# Altium footprint library 3.06-跳线座.PcbLib: 48 footprints (part 2 of 3)
Each footprint in its own frame and in the unit in brackets; x right, y up, seen from the top. Pads: shape width x height; smd on the part's side, far side on the other; paste and mask are expansions set on the pad; w line width, h text height; cw(c..) or ccw(c..) is an arc to the next point about the centre after c.
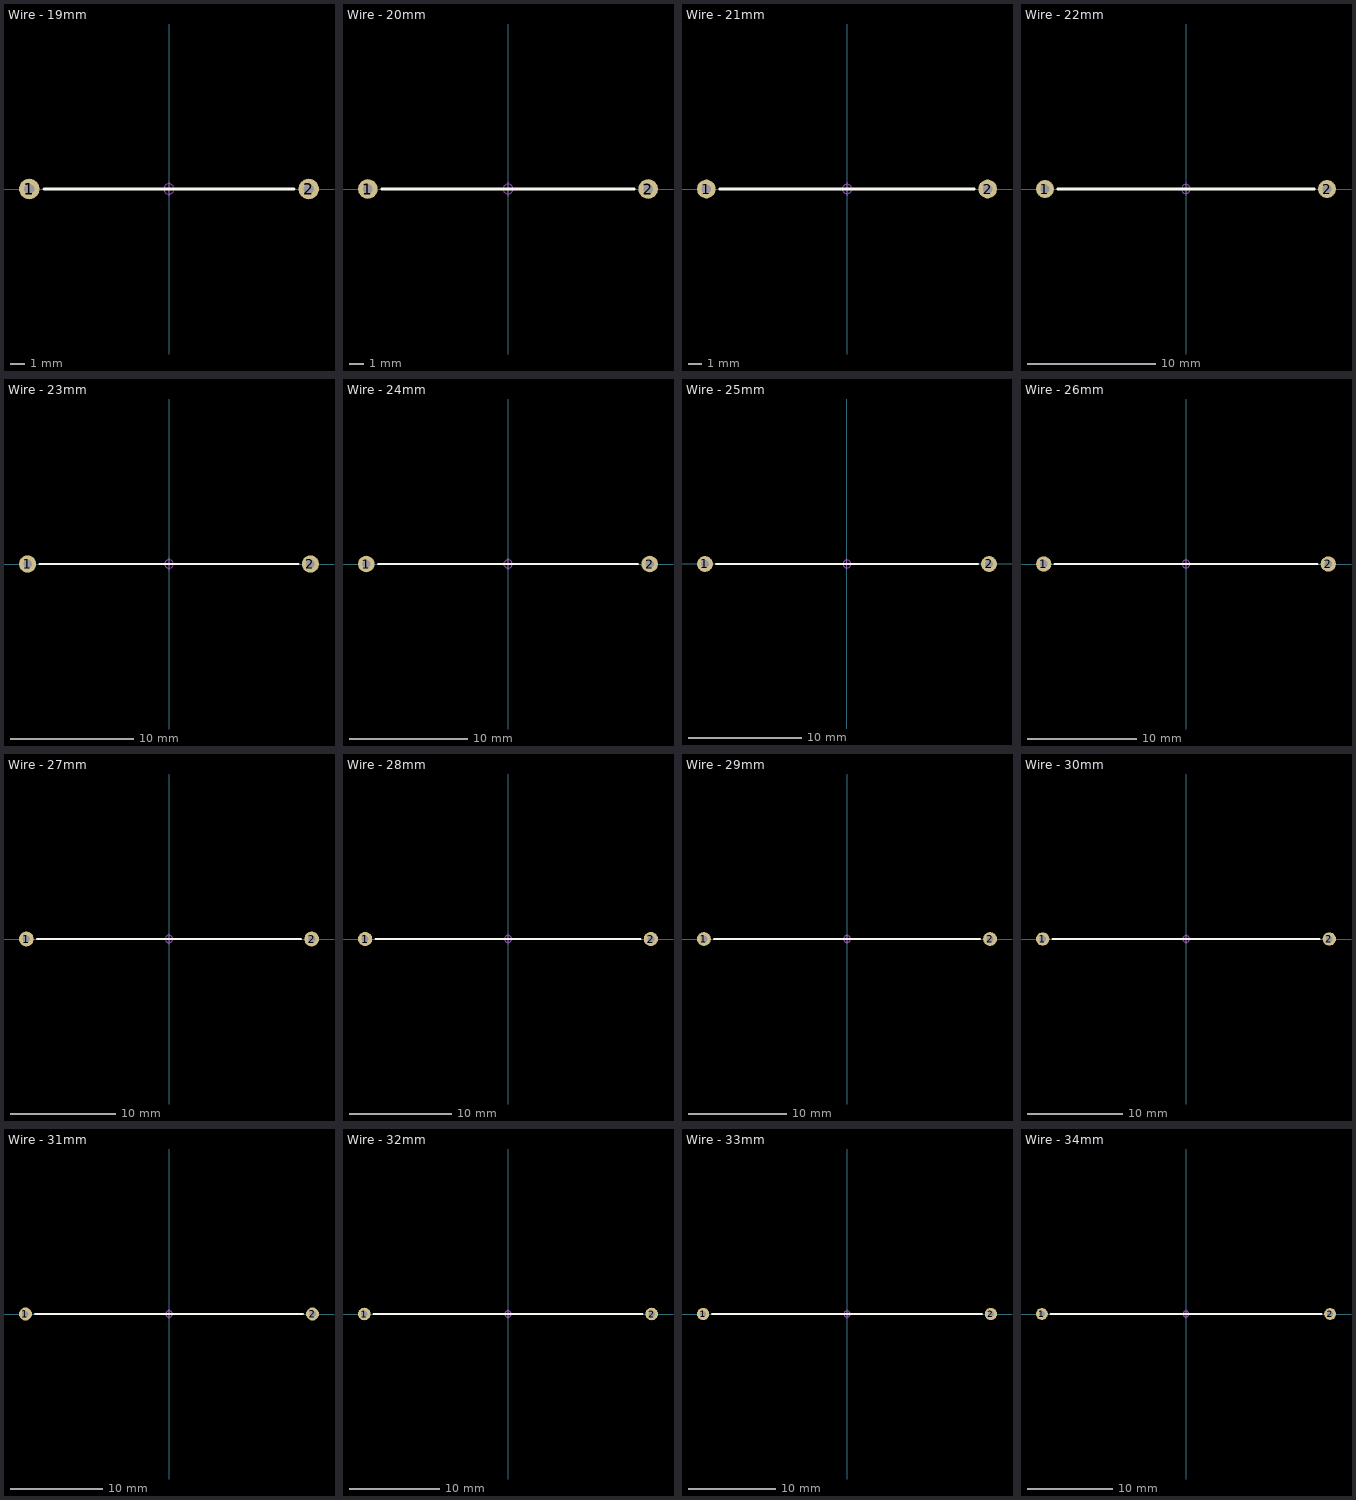
[diagram p1: the footprints below, top view; thin cyan lines are the x and y axes]

## Wire - 19mm [mm] "直接：0.5mm，脚距：19mm"
pads (2):
  round 1.4 hole 0.7: 1(-9.5,0) 2(9.5,0)
Top Overlay:
  lines w0.2: -8.5,0 8.5,0
Mechanical 15:
  circle w0.05: c0,0 r0.35
  lines w0.05: -0.5,0 0.5,0 ; 0,-0.5 0,0.5
3D body "Wire - 19mm.STEP": height 0.95, standoff -2.8, extent -9.75,-0.25 9.75,0.25

## Wire - 20mm [mm] "直接：0.5mm，脚距：20mm"
pads (2):
  round 1.4 hole 0.7: 1(-10,0) 2(10,0)
Top Overlay:
  lines w0.2: -9,0 9,0
Mechanical 15:
  circle w0.05: c0,0 r0.35
  lines w0.05: -0.5,0 0.5,0 ; 0,-0.5 0,0.5
3D body "Wire - 20mm.STEP": height 0.95, standoff -2.8, extent -10.25,-0.25 10.25,0.25

## Wire - 21mm [mm] "直接：0.5mm，脚距：21mm"
pads (2):
  round 1.4 hole 0.7: 1(-10.5,0) 2(10.5,0)
Top Overlay:
  lines w0.2: -9.5,0 9.5,0
Mechanical 15:
  circle w0.05: c0,0 r0.35
  lines w0.05: -0.5,0 0.5,0 ; 0,-0.5 0,0.5
3D body "Wire - 21mm.STEP": height 0.95, standoff -2.8, extent -10.75,-0.25 10.75,0.25

## Wire - 22mm [mm] "直接：0.5mm，脚距：22mm"
pads (2):
  round 1.4 hole 0.7: 1(-11,0) 2(11,0)
Top Overlay:
  lines w0.2: -10,0 10,0
Mechanical 15:
  circle w0.05: c0,0 r0.35
  lines w0.05: -0.5,0 0.5,0 ; 0,-0.5 0,0.5
3D body "Wire - 22mm.STEP": height 0.95, standoff -2.8, extent -11.25,-0.25 11.25,0.25

## Wire - 23mm [mm] "直接：0.5mm，脚距：23mm"
pads (2):
  round 1.4 hole 0.7: 1(-11.5,0) 2(11.5,0)
Top Overlay:
  lines w0.2: -10.5,0 10.5,0
Mechanical 15:
  circle w0.05: c0,0 r0.35
  lines w0.05: -0.5,0 0.5,0 ; 0,-0.5 0,0.5
3D body "Wire - 23mm.STEP": height 2.3, standoff -1.45, extent -11.75,-0.25 11.75,0.25

## Wire - 24mm [mm] "直接：0.5mm，脚距：24mm"
pads (2):
  round 1.4 hole 0.7: 1(-12,0) 2(12,0)
Top Overlay:
  lines w0.2: -11,0 11,0
Mechanical 15:
  circle w0.05: c0,0 r0.35
  lines w0.05: -0.5,0 0.5,0 ; 0,-0.5 0,0.5
3D body "Wire - 24mm.STEP": height 0.95, standoff -2.8, extent -12.25,-0.25 12.25,0.25

## Wire - 25mm [mm] "直接：0.5mm，脚距：25mm"
pads (2):
  round 1.4 hole 0.7: 1(-12.5,0) 2(12.5,0)
Top Overlay:
  lines w0.2: -11.5,0 11.5,0
Mechanical 15:
  circle w0.05: c0,0 r0.35
  lines w0.05: -0.5,0 0.5,0 ; 0,-0.5 0,0.5
3D body "Wire - 25mm.STEP": height 0.95, standoff -2.8, extent -12.75,-0.25 12.75,0.25

## Wire - 26mm [mm] "直接：0.5mm，脚距：26mm"
pads (2):
  round 1.4 hole 0.7: 1(-13,0) 2(13,0)
Top Overlay:
  lines w0.2: -12,0 12,0
Mechanical 15:
  circle w0.05: c0,0 r0.35
  lines w0.05: -0.5,0 0.5,0 ; 0,-0.5 0,0.5
3D body "Wire - 26mm.STEP": height 0.95, standoff -2.8, extent -13.25,-0.25 13.25,0.25

## Wire - 27mm [mm] "直接：0.5mm，脚距：27mm"
pads (2):
  round 1.4 hole 0.7: 1(-13.5,0) 2(13.5,0)
Top Overlay:
  lines w0.2: -12.5,0 12.5,0
Mechanical 15:
  circle w0.05: c0,0 r0.35
  lines w0.05: -0.5,0 0.5,0 ; 0,-0.5 0,0.5
3D body "Wire - 27mm.STEP": height 0.95, standoff -2.8, extent -13.75,-0.25 13.75,0.25

## Wire - 28mm [mm] "直接：0.5mm，脚距：28mm"
pads (2):
  round 1.4 hole 0.7: 1(-14,0) 2(14,0)
Top Overlay:
  lines w0.2: -13,0 13,0
Mechanical 15:
  circle w0.05: c0,0 r0.35
  lines w0.05: -0.5,0 0.5,0 ; 0,-0.5 0,0.5
3D body "Wire - 28mm.STEP": height 0.95, standoff -2.8, extent -14.25,-0.25 14.25,0.25

## Wire - 29mm [mm] "直接：0.5mm，脚距：29mm"
pads (2):
  round 1.4 hole 0.7: 1(-14.5,0) 2(14.5,0)
Top Overlay:
  lines w0.2: -13.5,0 13.5,0
Mechanical 15:
  circle w0.05: c0,0 r0.35
  lines w0.05: -0.5,0 0.5,0 ; 0,-0.5 0,0.5
3D body "Wire - 29mm.STEP": height 0.95, standoff -2.8, extent -14.75,-0.25 14.75,0.25

## Wire - 30mm [mm] "直接：0.5mm，脚距：30mm"
pads (2):
  round 1.4 hole 0.7: 1(-15,0) 2(15,0)
Top Overlay:
  lines w0.2: -14,0 14,0
Mechanical 15:
  circle w0.05: c0,0 r0.35
  lines w0.05: -0.5,0 0.5,0 ; 0,-0.5 0,0.5
3D body "Wire - 30mm.STEP": height 0.95, standoff -2.8, extent -15.25,-0.25 15.25,0.25

## Wire - 31mm [mm] "直接：0.5mm，脚距：31mm"
pads (2):
  round 1.4 hole 0.7: 1(-15.5,0) 2(15.5,0)
Top Overlay:
  lines w0.2: -14.5,0 14.5,0
Mechanical 15:
  circle w0.05: c0,0 r0.35
  lines w0.05: -0.5,0 0.5,0 ; 0,-0.5 0,0.5
3D body "Wire - 31mm.STEP": height 0.95, standoff -2.8, extent -15.75,-0.25 15.75,0.25

## Wire - 32mm [mm] "直接：0.5mm，脚距：32mm"
pads (2):
  round 1.4 hole 0.7: 1(-16,0) 2(16,0)
Top Overlay:
  lines w0.2: -15,0 15,0
Mechanical 15:
  circle w0.05: c0,0 r0.35
  lines w0.05: -0.5,0 0.5,0 ; 0,-0.5 0,0.5
3D body "Wire - 32mm.STEP": height 0.95, standoff -2.8, extent -16.25,-0.25 16.25,0.25

## Wire - 33mm [mm] "直接：0.5mm，脚距：33mm"
pads (2):
  round 1.4 hole 0.7: 1(-16.5,0) 2(16.5,0)
Top Overlay:
  lines w0.2: -15.5,0 15.5,0
Mechanical 15:
  circle w0.05: c0,0 r0.35
  lines w0.05: -0.5,0 0.5,0 ; 0,-0.5 0,0.5
3D body "Wire - 33mm.STEP": height 0.95, standoff -2.8, extent -16.75,-0.25 16.75,0.25

## Wire - 34mm [mm] "直接：0.5mm，脚距：34mm"
pads (2):
  round 1.4 hole 0.7: 1(-17,0) 2(17,0)
Top Overlay:
  lines w0.2: -16,0 16,0
Mechanical 15:
  circle w0.05: c0,0 r0.35
  lines w0.05: -0.5,0 0.5,0 ; 0,-0.5 0,0.5
3D body "Wire - 34mm.STEP": height 0.95, standoff -2.8, extent -17.25,-0.25 17.25,0.25